# Altium footprint library bolt_M10.PcbLib: 1 footprints
Each footprint in its own frame and in the unit in brackets; x right, y up, seen from the top. Pads: shape width x height; smd on the part's side, far side on the other; paste and mask are expansions set on the pad; w line width, h text height; cw(c..) or ccw(c..) is an arc to the next point about the centre after c.
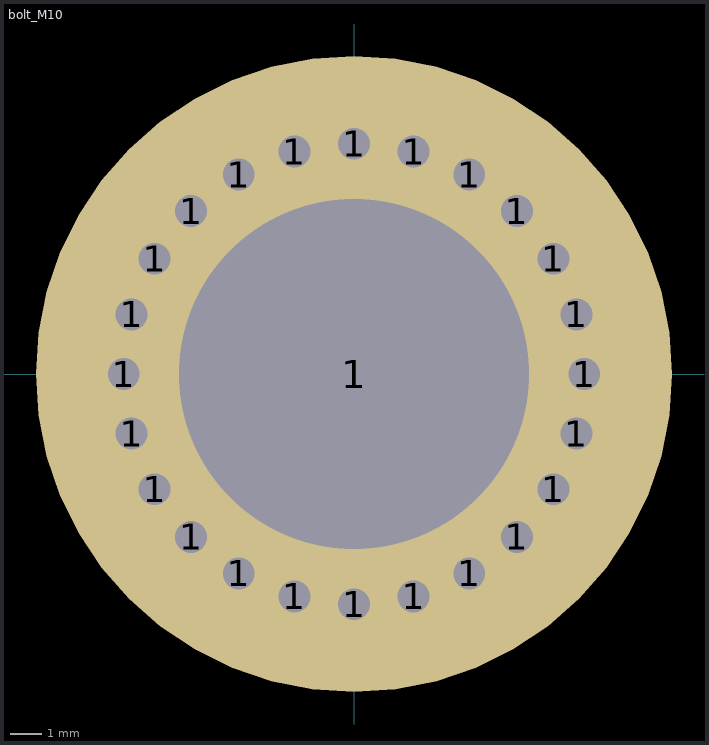
[diagram p0: the footprint, top view; thin cyan lines are the x and y axes]

## bolt_M10 [mm]
pads (25):
  round 1.5 hole 1: 1(-7.239,0) 1(-6.992,-1.874) 1(-6.992,1.874) 1(-6.269,-3.619) 1(-6.269,3.619) 1(-5.119,-5.119) 1(-5.119,5.119) 1(-3.619,-6.269) 1(-3.619,6.269) 1(-1.874,-6.992) 1(-1.874,6.992) 1(0,-7.239) 1(0,7.239) 1(1.874,-6.992) 1(1.874,6.992) 1(3.619,-6.269) 1(3.619,6.269) 1(5.119,-5.119) 1(5.119,5.119) 1(6.269,-3.619) 1(6.269,3.619) 1(6.992,-1.874) 1(6.992,1.874) 1(7.239,0)
  round 20 hole 11: 1(0,0)
Mechanical 13:
  text ".Designator" at -2.6,-3.98 h2.5
3D body: height 10, standoff 1.6, extent -8,-9.237 8,9.238
3D body: height 11.23, standoff 0, extent -8.763,-32.131 8.763,8.509
3D body: height 7.2, standoff -12.61, extent -8.249,-7.144 8.249,7.144